# Altium schematic symbol library Варикапы.SchLib: 1 symbol
Pins are listed as number, name and electrical type; pins without a type are passive.

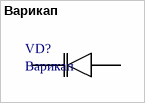
[diagram p0: symbol Варикап]

## Варикап
designator VD?
footprint FlipButton12mm
pins: 1, 2